# EAGLE library part AMC23C10 (library Bauteile)
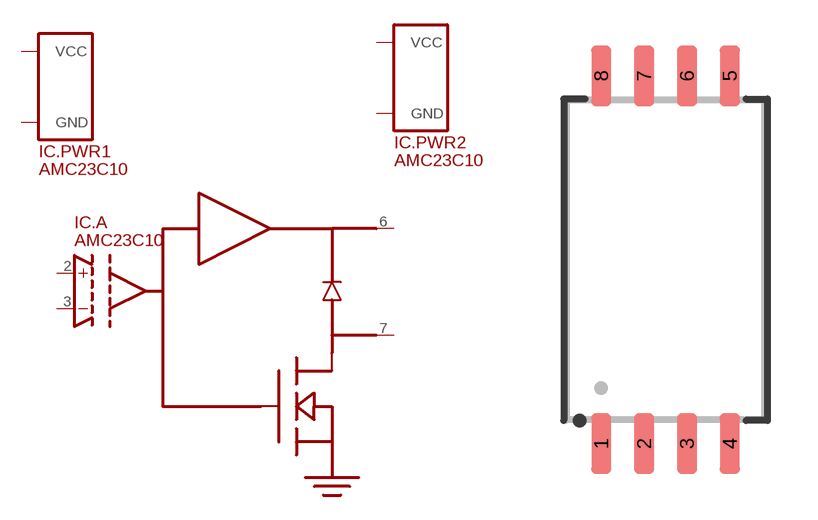
[diagram p164: symbol with the pads of SO8_WIDE; footprint SO8_WIDE]

Designator prefix IC; gates .PWR1=SUPPLY_VCC/GND .PWR2=SUPPLY_VCC/GND .A=AMC23C10

## AMC23C10  [SO8_WIDE]
1  .PWR1:VCC
2  .A:+IN
3  .A:-IN
4  .PWR1:GND
5  .PWR2:GND
6  .A:OUT1
7  .A:OUT2
8  .PWR2:VCC

## Footprint SO8_WIDE (pad centres in mm)
smd 0.6 x 1.8: 1 -1.905,-5.45; 2 -0.635,-5.45; 3 0.635,-5.45; 4 1.905,-5.45; 5 1.905,5.45; 6 0.635,5.45; 7 -0.635,5.45; 8 -1.905,5.45